# Altium schematic symbol library GRM155R71H103KA88D.SchLib: 1 symbol
Pins are listed as number, name and electrical type; pins without a type are passive.

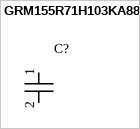
[diagram p0: symbol GRM155R71H103KA88D]

## GRM155R71H103KA88D
designator C?
Manufacturer_Name: Murata; Manufacturer_Part_Number: GRM155R71H103KA88D
pins: 1, 2